# Altium schematic symbol library Agilent LED Display 7-Segment, 1-Digit.SchLib: 237 symbols (part 4 of 5)
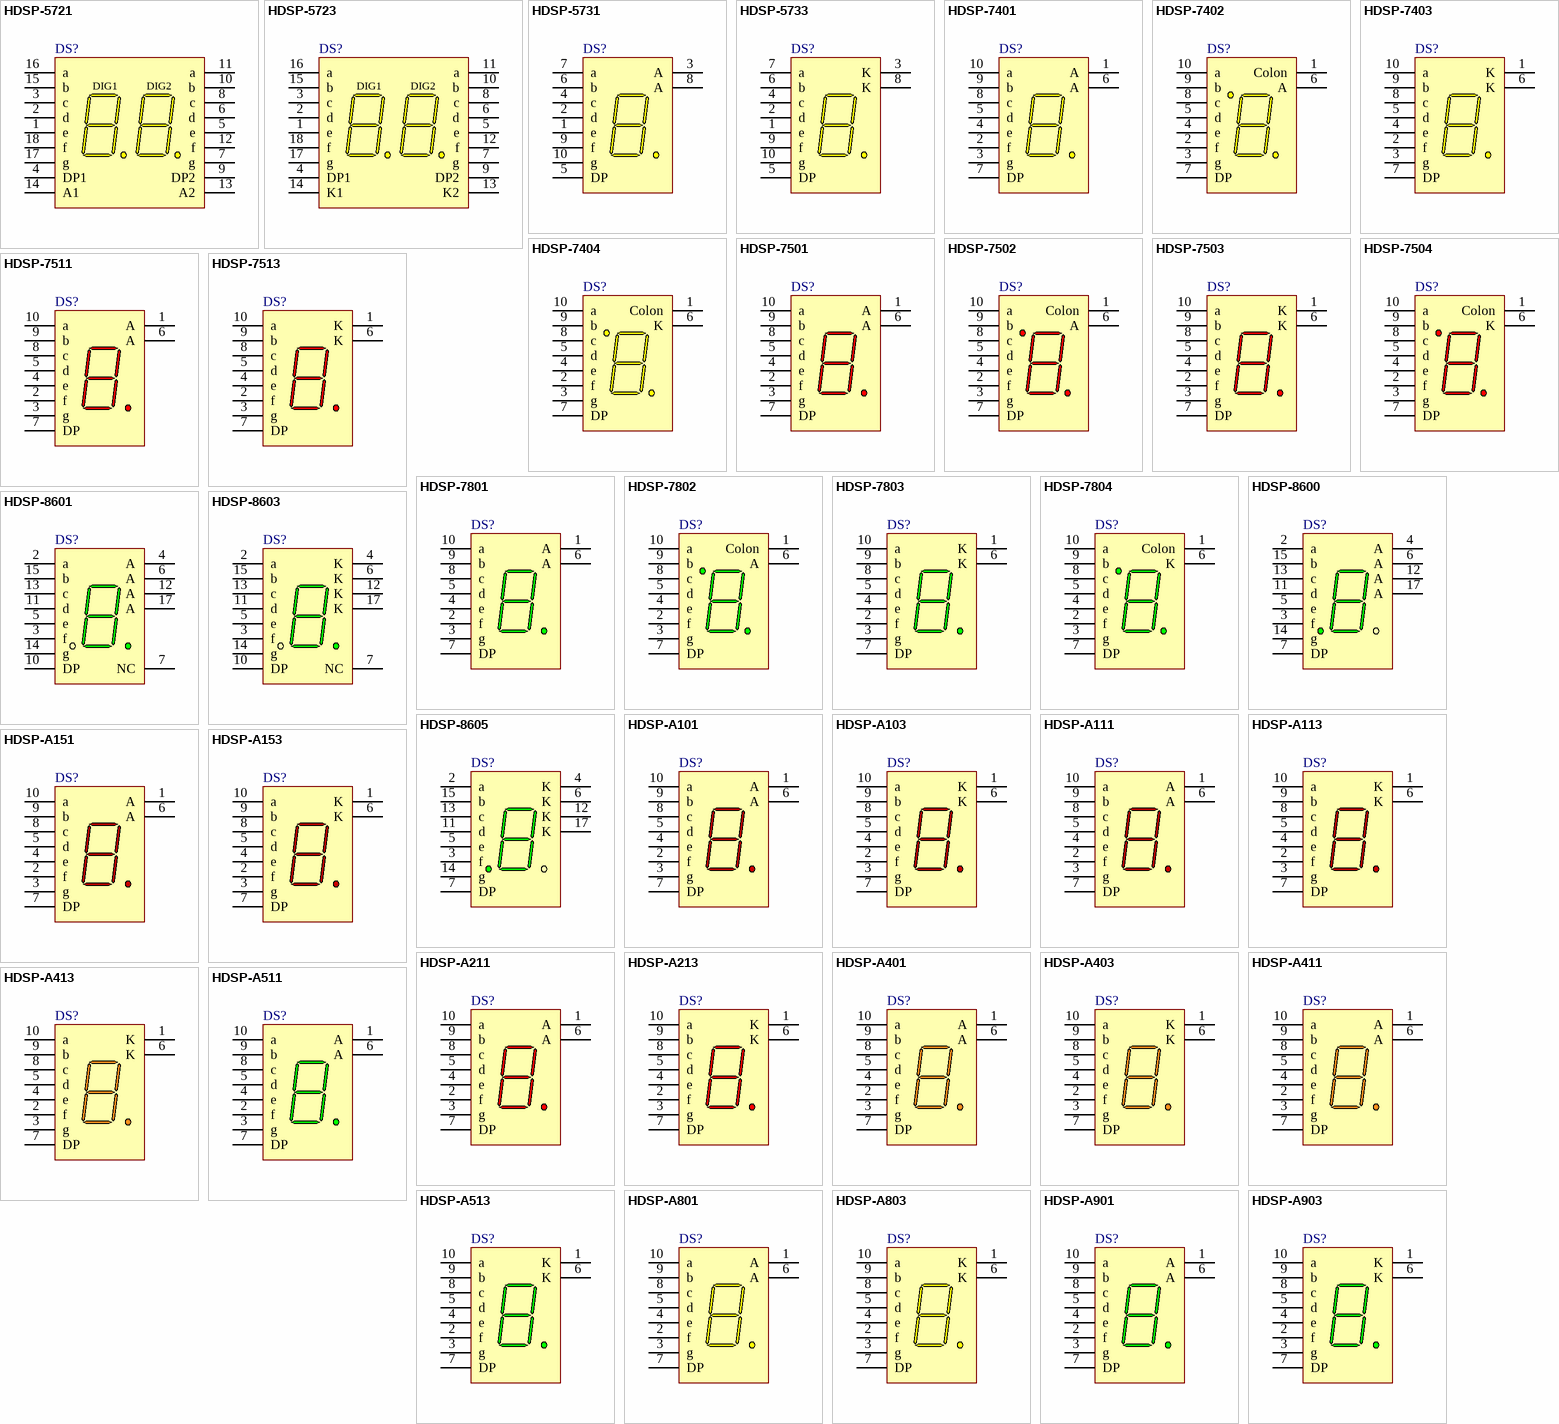
[diagram p8: symbols HDSP-5721 to HDSP-A903]

## HDSP-A513
designator DS?
7.62 mm Black Surface Green 7-Segment Display: CC, RH DP; LuminousIntensity: 860 ucd (Minimum).; Note: Pins 1 and 6 are redundant Cathodes.; Published: 26-May-2004; LatestRevisionDate: 11-Oct-2004; LatestRevisionNote: Display outline superimposed on PCB Footprint.; DatasheetDocument: 19-Feb-2002; PackageDocument: 19-Feb-2002; PackageReference: A; Publisher: Altium Limited; LED_Colour: Green; ComponentLink1Description: Manufacturer Link; ComponentLink1URL: http://www.agilent.com/; ComponentLink2Description: Datasheet; ComponentLink2URL: http://cp.literature.agilent.com/litweb/pdf/5989-2795EN.pdf
footprint A (LED, 7-Segment Display, 7.62 mm, RHD; 10 Leads; Row Space 5.08 mm; Pitch 2.54 mm)
simulation model HDSP_A513 (SUBCKT)
pins: 1 K "Cathode", 2 f "Anode", 3 g "Anode", 4 e "Anode", 5 d "Anode", 6 K "Cathode", 7 DP "Anode", 8 c "Anode", 9 b "Anode", 10 a "Anode"

## HDSP-A801
designator DS?
7.62 mm Low Current Yellow 7-Segment Display: CA, RH DP; LuminousIntensity: 250 ucd (Minimum).; Note: Pins 1 and 6 are redundant Anodes.; Published: 26-May-2004; LatestRevisionDate: 11-Oct-2004; LatestRevisionNote: Display outline superimposed on PCB Footprint.; DatasheetDocument: 11-Mar-2003; PackageDocument: 19-Feb-2002; PackageReference: A; Publisher: Altium Limited; LED_Colour: Yellow; ComponentLink1Description: Manufacturer Link; ComponentLink1URL: http://www.agilent.com/; ComponentLink2Description: Datasheet; ComponentLink2URL: http://cp.literature.agilent.com/litweb/pdf/5989-2824EN.pdf
footprint A (LED, 7-Segment Display, 7.62 mm, RHD; 10 Leads; Row Space 5.08 mm; Pitch 2.54 mm)
simulation model HDSP_A801 (SUBCKT)
pins: 1 A "Anode", 2 f "Cathode", 3 g "Cathode", 4 e "Cathode", 5 d "Cathode", 6 A "Anode", 7 DP "Cathode", 8 c "Cathode", 9 b "Cathode", 10 a "Cathode"

## HDSP-A803
designator DS?
7.62 mm Low Current Yellow 7-Segment Display: CC, RH DP; LuminousIntensity: 250 ucd (Minimum).; Note: Pins 1 and 6 are redundant Cathodes.; Published: 26-May-2004; LatestRevisionDate: 11-Oct-2004; LatestRevisionNote: Display outline superimposed on PCB Footprint.; DatasheetDocument: 11-Mar-2003; PackageDocument: 19-Feb-2002; PackageReference: A; Publisher: Altium Limited; LED_Colour: Yellow; ComponentLink1Description: Manufacturer Link; ComponentLink1URL: http://www.agilent.com/; ComponentLink2Description: Datasheet; ComponentLink2URL: http://cp.literature.agilent.com/litweb/pdf/5989-2824EN.pdf
footprint A (LED, 7-Segment Display, 7.62 mm, RHD; 10 Leads; Row Space 5.08 mm; Pitch 2.54 mm)
simulation model HDSP_A803 (SUBCKT)
pins: 1 K "Cathode", 2 f "Anode", 3 g "Anode", 4 e "Anode", 5 d "Anode", 6 K "Cathode", 7 DP "Anode", 8 c "Anode", 9 b "Anode", 10 a "Anode"

## HDSP-A901
designator DS?
7.62 mm Low Current Green 7-Segment Display: CA, RH DP; LuminousIntensity: 250 ucd (Minimum).; Note: Pins 1 and 6 are redundant Anodes.; Published: 26-May-2004; LatestRevisionDate: 11-Oct-2004; LatestRevisionNote: Display outline superimposed on PCB Footprint.; DatasheetDocument: 11-Mar-2003; PackageDocument: 19-Feb-2002; PackageReference: A; Publisher: Altium Limited; LED_Colour: Green; ComponentLink1Description: Manufacturer Link; ComponentLink1URL: http://www.agilent.com/; ComponentLink2Description: Datasheet; ComponentLink2URL: http://cp.literature.agilent.com/litweb/pdf/5989-2824EN.pdf
footprint A (LED, 7-Segment Display, 7.62 mm, RHD; 10 Leads; Row Space 5.08 mm; Pitch 2.54 mm)
simulation model HDSP_A901 (SUBCKT)
pins: 1 A "Anode", 2 f "Cathode", 3 g "Cathode", 4 e "Cathode", 5 d "Cathode", 6 A "Anode", 7 DP "Cathode", 8 c "Cathode", 9 b "Cathode", 10 a "Cathode"

## HDSP-A903
designator DS?
7.62 mm Low Current Green 7-Segment Display: CC, RH DP; LuminousIntensity: 250 ucd (Minimum).; Note: Pins 1 and 6 are redundant Cathodes.; Published: 26-May-2004; LatestRevisionDate: 11-Oct-2004; LatestRevisionNote: Display outline superimposed on PCB Footprint.; DatasheetDocument: 11-Mar-2003; PackageDocument: 19-Feb-2002; PackageReference: A; Publisher: Altium Limited; LED_Colour: Green; ComponentLink1Description: Manufacturer Link; ComponentLink1URL: http://www.agilent.com/; ComponentLink2Description: Datasheet; ComponentLink2URL: http://cp.literature.agilent.com/litweb/pdf/5989-2824EN.pdf
footprint A (LED, 7-Segment Display, 7.62 mm, RHD; 10 Leads; Row Space 5.08 mm; Pitch 2.54 mm)
simulation model HDSP_A903 (SUBCKT)
pins: 1 K "Cathode", 2 f "Anode", 3 g "Anode", 4 e "Anode", 5 d "Anode", 6 K "Cathode", 7 DP "Anode", 8 c "Anode", 9 b "Anode", 10 a "Anode"

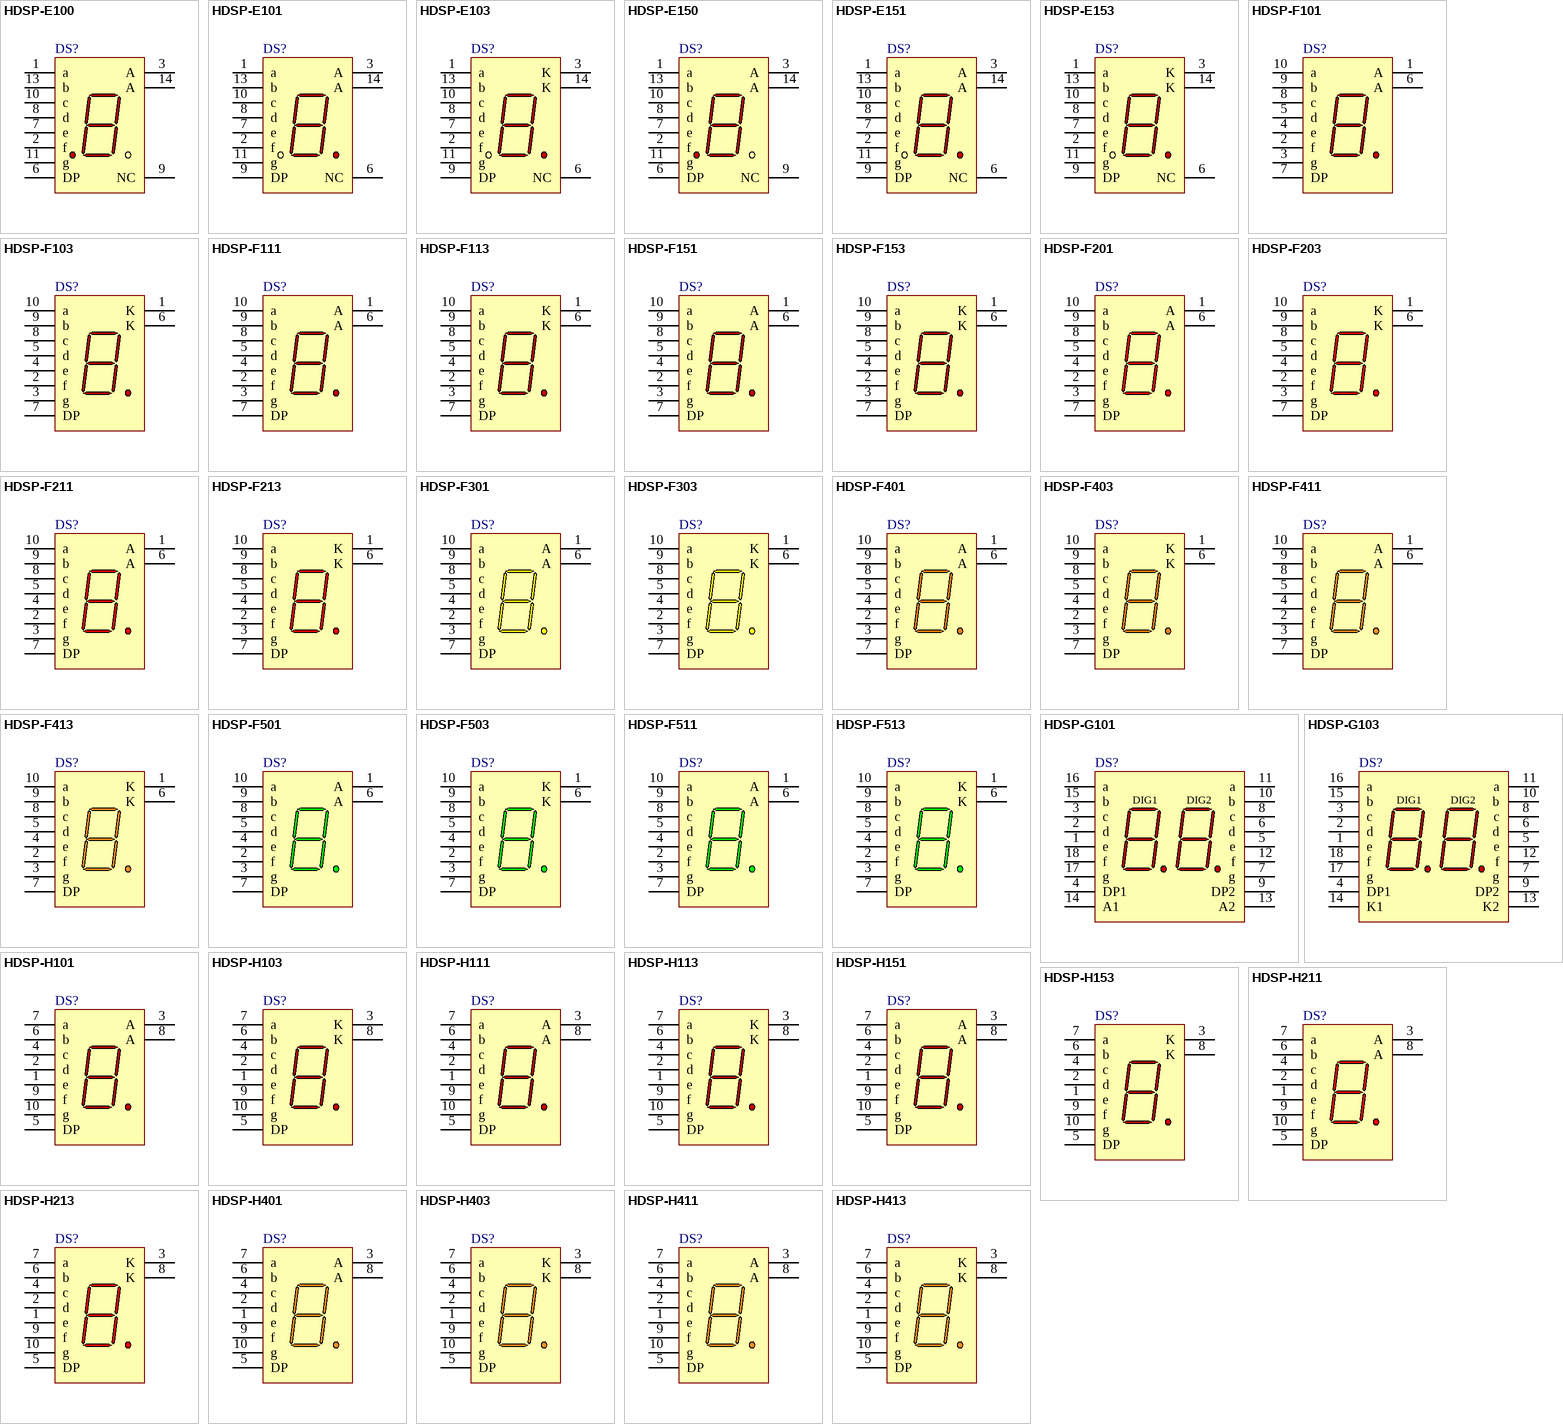
[diagram p4: symbols HDSP-E100 to HDSP-H413]

## HDSP-E100
designator DS?
10.92 mm Low Current AlGaAs 7-Segment Display: CA, LH DP; LuminousIntensity: 390 ucd (Minimum).; LED_Colour: AlGaAs Red; Note: Pins 3 and 14 are redundant Anodes.; Note: No pins are present in positions 4, 5 and 12.; Published: 26-May-2004; LatestRevisionDate: 11-Oct-2004; LatestRevisionNote: Display outline superimposed on PCB Footprint.; DatasheetDocument: 11-Mar-2003; PackageDocument: 11-Mar-2003; PackageReference: E-11(L); Publisher: Altium Limited; ComponentLink1Description: Manufacturer Link; ComponentLink1URL: http://www.agilent.com/; ComponentLink2Description: Datasheet; ComponentLink2URL: http://cp.literature.agilent.com/litweb/pdf/5989-2824EN.pdf
footprint E-11(L) (LED, 7-Segment Display, 10.92 mm, LHD; 14 Leads (3 Absent); Row Space 7.62 mm; Pitch 2.54 mm)
simulation model HDSP_E100 (SUBCKT)
pins: 1 a "Cathode", 2 f "Cathode", 3 A "Anode", 6 DP "Cathode", 7 e "Cathode", 8 d "Cathode", 9 NC "No Connect", 10 c "Cathode", 11 g "Cathode", 13 b "Cathode", 14 A "Anode"

## HDSP-E101
designator DS?
10.92 mm Low Current AlGaAs 7-Segment Display: CA, RH DP; LuminousIntensity: 390 ucd (Minimum).; LED_Colour: AlGaAs Red; Note: Pins 3 and 14 are redundant Anodes.; Note: No pins are present in positions 4, 5 and 12.; Published: 26-May-2004; LatestRevisionDate: 11-Oct-2004; LatestRevisionNote: Display outline superimposed on PCB Footprint.; DatasheetDocument: 11-Mar-2003; PackageDocument: 11-Mar-2003; PackageReference: E-11(R); Publisher: Altium Limited; ComponentLink1Description: Manufacturer Link; ComponentLink1URL: http://www.agilent.com/; ComponentLink2Description: Datasheet; ComponentLink2URL: http://cp.literature.agilent.com/litweb/pdf/5989-2824EN.pdf
footprint E-11(R) (LED, 7-Segment Display, 10.92 mm, RHD; 14 Leads (3 Absent); Row Space 7.62 mm; Pitch 2.54 mm)
simulation model HDSP_E101 (SUBCKT)
pins: 1 a "Cathode", 2 f "Cathode", 3 A "Anode", 6 NC "No Connect", 7 e "Cathode", 8 d "Cathode", 9 DP "Cathode", 10 c "Cathode", 11 g "Cathode", 13 b "Cathode", 14 A "Anode"

## HDSP-E103
designator DS?
10.92 mm Low Current AlGaAs 7-Segment Display: CC, RH DP; LuminousIntensity: 390 ucd (Minimum).; LED_Colour: AlGaAs Red; Note: Pins 3 and 14 are redundant Cathodes.; Note: No pins are present in positions 4, 5 and 12.; Published: 26-May-2004; LatestRevisionDate: 11-Oct-2004; LatestRevisionNote: Display outline superimposed on PCB Footprint.; DatasheetDocument: 11-Mar-2003; PackageDocument: 11-Mar-2003; PackageReference: E-11(R); Publisher: Altium Limited; ComponentLink1Description: Manufacturer Link; ComponentLink1URL: http://www.agilent.com/; ComponentLink2Description: Datasheet; ComponentLink2URL: http://cp.literature.agilent.com/litweb/pdf/5989-2824EN.pdf
footprint E-11(R) (LED, 7-Segment Display, 10.92 mm, RHD; 14 Leads (3 Absent); Row Space 7.62 mm; Pitch 2.54 mm)
simulation model HDSP_E103 (SUBCKT)
pins: 1 a "Anode", 2 f "Anode", 3 K "Cathode", 6 NC "No Connect", 7 e "Anode", 8 d "Anode", 9 DP "Anode", 10 c "Anode", 11 g "Anode", 13 b "Anode", 14 K "Cathode"

## HDSP-E150
designator DS?
10.92 mm AlGaAs 7-Segment Display: CA, LH DP; LuminousIntensity: 8500 ucd (Minimum).; LED_Colour: AlGaAs Red; Note: Pins 3 and 14 are redundant Anodes.; Note: No pins are present in positions 4, 5 and 12.; Published: 26-May-2004; LatestRevisionDate: 11-Oct-2004; LatestRevisionNote: Display outline superimposed on PCB Footprint.; DatasheetDocument: 27-Aug-2001; PackageDocument: 11-Mar-2003; PackageReference: E-11(L); Publisher: Altium Limited; ComponentLink1Description: Manufacturer Link; ComponentLink1URL: http://www.agilent.com/; ComponentLink2Description: Datasheet; ComponentLink2URL: http://cp.literature.agilent.com/litweb/pdf/5988-3325EN.pdf
footprint E-11(L) (LED, 7-Segment Display, 10.92 mm, LHD; 14 Leads (3 Absent); Row Space 7.62 mm; Pitch 2.54 mm)
simulation model HDSP_E150 (SUBCKT)
pins: 1 a "Cathode", 2 f "Cathode", 3 A "Anode", 6 DP "Cathode", 7 e "Cathode", 8 d "Cathode", 9 NC "No Connect", 10 c "Cathode", 11 g "Cathode", 13 b "Cathode", 14 A "Anode"

## HDSP-E151
designator DS?
10.92 mm AlGaAs 7-Segment Display: CA, RH DP; LuminousIntensity: 8500 ucd (Minimum).; LED_Colour: AlGaAs Red; Note: Pins 3 and 14 are redundant Anodes.; Note: No pins are present in positions 4, 5 and 12.; Published: 26-May-2004; LatestRevisionDate: 11-Oct-2004; LatestRevisionNote: Display outline superimposed on PCB Footprint.; DatasheetDocument: 27-Aug-2001; PackageDocument: 11-Mar-2003; PackageReference: E-11(R); Publisher: Altium Limited; ComponentLink1Description: Manufacturer Link; ComponentLink1URL: http://www.agilent.com/; ComponentLink2Description: Datasheet; ComponentLink2URL: http://cp.literature.agilent.com/litweb/pdf/5988-3325EN.pdf
footprint E-11(R) (LED, 7-Segment Display, 10.92 mm, RHD; 14 Leads (3 Absent); Row Space 7.62 mm; Pitch 2.54 mm)
simulation model HDSP_E151 (SUBCKT)
pins: 1 a "Cathode", 2 f "Cathode", 3 A "Anode", 6 NC "No Connect", 7 e "Cathode", 8 d "Cathode", 9 DP "Cathode", 10 c "Cathode", 11 g "Cathode", 13 b "Cathode", 14 A "Anode"

## HDSP-E153
designator DS?
10.92 mm AlGaAs 7-Segment Display: CC, RH DP; LuminousIntensity: 8500 ucd (Minimum).; LED_Colour: AlGaAs Red; Note: Pins 3 and 14 are redundant Cathodes.; Note: No pins are present in positions 4, 5 and 12.; Published: 26-May-2004; LatestRevisionDate: 11-Oct-2004; LatestRevisionNote: Display outline superimposed on PCB Footprint.; DatasheetDocument: 27-Aug-2001; PackageDocument: 11-Mar-2003; PackageReference: E-11(R); Publisher: Altium Limited; ComponentLink1Description: Manufacturer Link; ComponentLink1URL: http://www.agilent.com/; ComponentLink2Description: Datasheet; ComponentLink2URL: http://cp.literature.agilent.com/litweb/pdf/5988-3325EN.pdf
footprint E-11(R) (LED, 7-Segment Display, 10.92 mm, RHD; 14 Leads (3 Absent); Row Space 7.62 mm; Pitch 2.54 mm)
simulation model HDSP_E153 (SUBCKT)
pins: 1 a "Anode", 2 f "Anode", 3 K "Cathode", 6 NC "No Connect", 7 e "Anode", 8 d "Anode", 9 DP "Anode", 10 c "Anode", 11 g "Anode", 13 b "Anode", 14 K "Cathode"

## HDSP-F101
designator DS?
10.16 mm Low Current AlGaAs 7-Segment Display: CA, RH DP; LuminousIntensity: 330 ucd (Minimum).; LED_Colour: AlGaAs Red; Note: Pins 1 and 6 are redundant Anodes.; Published: 26-May-2004; LatestRevisionDate: 11-Oct-2004; LatestRevisionNote: Display outline superimposed on PCB Footprint.; DatasheetDocument: 11-Mar-2003; PackageDocument: 17-Jan-2002; PackageReference: F; Publisher: Altium Limited; ComponentLink1Description: Manufacturer Link; ComponentLink1URL: http://www.agilent.com/; ComponentLink2Description: Datasheet; ComponentLink2URL: http://cp.literature.agilent.com/litweb/pdf/5989-2824EN.pdf
footprint F (LED, 7-Segment Display, 10.16 mm, RHD; 10 Leads; Row Space 7.62 mm; Pitch 2.54 mm)
simulation model HDSP_A101 (SUBCKT)
pins: 1 A "Anode", 2 f "Cathode", 3 g "Cathode", 4 e "Cathode", 5 d "Cathode", 6 A "Anode", 7 DP "Cathode", 8 c "Cathode", 9 b "Cathode", 10 a "Cathode"

## HDSP-F103
designator DS?
10.16 mm Low Current AlGaAs 7-Segment Display: CC, RH DP; LuminousIntensity: 330 ucd (Minimum).; LED_Colour: AlGaAs Red; Note: Pins 1 and 6 are redundant Cathodes.; Published: 26-May-2004; LatestRevisionDate: 11-Oct-2004; LatestRevisionNote: Display outline superimposed on PCB Footprint.; DatasheetDocument: 11-Mar-2003; PackageDocument: 17-Jan-2002; PackageReference: F; Publisher: Altium Limited; ComponentLink1Description: Manufacturer Link; ComponentLink1URL: http://www.agilent.com/; ComponentLink2Description: Datasheet; ComponentLink2URL: http://cp.literature.agilent.com/litweb/pdf/5989-2824EN.pdf
footprint F (LED, 7-Segment Display, 10.16 mm, RHD; 10 Leads; Row Space 7.62 mm; Pitch 2.54 mm)
simulation model HDSP_A103 (SUBCKT)
pins: 1 K "Cathode", 2 f "Anode", 3 g "Anode", 4 e "Anode", 5 d "Anode", 6 K "Cathode", 7 DP "Anode", 8 c "Anode", 9 b "Anode", 10 a "Anode"

## HDSP-F111
designator DS?
10.16 mm Black Surface AlGaAs Red 7-Segment Display: CA, RH DP; LuminousIntensity: 330 ucd (Minimum).; Note: Pins 1 and 6 are redundant Anodes.; Published: 26-May-2004; LatestRevisionDate: 11-Oct-2004; LatestRevisionNote: Display outline superimposed on PCB Footprint.; DatasheetDocument: 19-Feb-2002; PackageDocument: 17-Jan-2002; PackageReference: F; Publisher: Altium Limited; LED_Colour: AlGaAs Red; ComponentLink1Description: Manufacturer Link; ComponentLink1URL: http://www.agilent.com/; ComponentLink2Description: Datasheet; ComponentLink2URL: http://cp.literature.agilent.com/litweb/pdf/5989-2795EN.pdf
footprint F (LED, 7-Segment Display, 10.16 mm, RHD; 10 Leads; Row Space 7.62 mm; Pitch 2.54 mm)
simulation model HDSP_A111 (SUBCKT)
pins: 1 A "Anode", 2 f "Cathode", 3 g "Cathode", 4 e "Cathode", 5 d "Cathode", 6 A "Anode", 7 DP "Cathode", 8 c "Cathode", 9 b "Cathode", 10 a "Cathode"

## HDSP-F113
designator DS?
10.16 mm Black Surface AlGaAs Red 7-Segment Display: CC, RH DP; LuminousIntensity: 330 ucd (Minimum).; Note: Pins 1 and 6 are redundant Cathodes.; Published: 26-May-2004; LatestRevisionDate: 11-Oct-2004; LatestRevisionNote: Display outline superimposed on PCB Footprint.; DatasheetDocument: 19-Feb-2002; PackageDocument: 17-Jan-2002; PackageReference: F; Publisher: Altium Limited; LED_Colour: AlGaAs Red; ComponentLink1Description: Manufacturer Link; ComponentLink1URL: http://www.agilent.com/; ComponentLink2Description: Datasheet; ComponentLink2URL: http://cp.literature.agilent.com/litweb/pdf/5989-2795EN.pdf
footprint F (LED, 7-Segment Display, 10.16 mm, RHD; 10 Leads; Row Space 7.62 mm; Pitch 2.54 mm)
simulation model HDSP_A113 (SUBCKT)
pins: 1 K "Cathode", 2 f "Anode", 3 g "Anode", 4 e "Anode", 5 d "Anode", 6 K "Cathode", 7 DP "Anode", 8 c "Anode", 9 b "Anode", 10 a "Anode"

## HDSP-F151
designator DS?
10.16 mm Gray Package AlGaAs Red 7-Segment Display: CA, RH DP; LuminousIntensity: 7500 ucd (Minimum).; Note: Pins 1 and 6 are redundant Anodes.; Published: 26-May-2004; LatestRevisionDate: 11-Oct-2004; LatestRevisionNote: Display outline superimposed on PCB Footprint.; DatasheetDocument: 26-Jul-2001; PackageDocument: 17-Jan-2002; PackageReference: F; Publisher: Altium Limited; LED_Colour: AlGaAs Red; ComponentLink1Description: Manufacturer Link; ComponentLink1URL: http://www.agilent.com/; ComponentLink2Description: Datasheet; ComponentLink2URL: http://cp.literature.agilent.com/litweb/pdf/5989-2346EN.pdf
footprint F (LED, 7-Segment Display, 10.16 mm, RHD; 10 Leads; Row Space 7.62 mm; Pitch 2.54 mm)
simulation model HDSP_F151 (SUBCKT)
pins: 1 A "Anode", 2 f "Cathode", 3 g "Cathode", 4 e "Cathode", 5 d "Cathode", 6 A "Anode", 7 DP "Cathode", 8 c "Cathode", 9 b "Cathode", 10 a "Cathode"

## HDSP-F153
designator DS?
10.16 mm Gray Package AlGaAs Red 7-Segment Display: CC, RH DP; LuminousIntensity: 7500 ucd (Minimum).; Note: Pins 1 and 6 are redundant Cathodes.; Published: 26-May-2004; LatestRevisionDate: 11-Oct-2004; LatestRevisionNote: Display outline superimposed on PCB Footprint.; DatasheetDocument: 26-Jul-2001; PackageDocument: 17-Jan-2002; PackageReference: F; Publisher: Altium Limited; LED_Colour: AlGaAs Red; ComponentLink1Description: Manufacturer Link; ComponentLink1URL: http://www.agilent.com/; ComponentLink2Description: Datasheet; ComponentLink2URL: http://cp.literature.agilent.com/litweb/pdf/5989-2346EN.pdf
footprint F (LED, 7-Segment Display, 10.16 mm, RHD; 10 Leads; Row Space 7.62 mm; Pitch 2.54 mm)
simulation model HDSP_F153 (SUBCKT)
pins: 1 K "Cathode", 2 f "Anode", 3 g "Anode", 4 e "Anode", 5 d "Anode", 6 K "Cathode", 7 DP "Anode", 8 c "Anode", 9 b "Anode", 10 a "Anode"

## HDSP-F201
designator DS?
10.16 mm Gray Package HER 7-Segment Display: CA, RH DP; LuminousIntensity: 420 ucd (Minimum).; LED_Colour: High Efficiency Red (HER); Note: Pins 1 and 6 are redundant Anodes.; Published: 26-May-2004; LatestRevisionDate: 11-Oct-2004; LatestRevisionNote: Display outline superimposed on PCB Footprint.; DatasheetDocument: 26-Jul-2001; PackageDocument: 17-Jan-2002; PackageReference: F; Publisher: Altium Limited; ComponentLink1Description: Manufacturer Link; ComponentLink1URL: http://www.agilent.com/; ComponentLink2Description: Datasheet; ComponentLink2URL: http://cp.literature.agilent.com/litweb/pdf/5989-2346EN.pdf
footprint F (LED, 7-Segment Display, 10.16 mm, RHD; 10 Leads; Row Space 7.62 mm; Pitch 2.54 mm)
simulation model HDSP_F201 (SUBCKT)
pins: 1 A "Anode", 2 f "Cathode", 3 g "Cathode", 4 e "Cathode", 5 d "Cathode", 6 A "Anode", 7 DP "Cathode", 8 c "Cathode", 9 b "Cathode", 10 a "Cathode"

## HDSP-F203
designator DS?
10.16 mm Gray Package HER 7-Segment Display: CC, RH DP; LuminousIntensity: 420 ucd (Minimum).; LED_Colour: High Efficiency Red (HER); Note: Pins 1 and 6 are redundant Cathodes.; Published: 26-May-2004; LatestRevisionDate: 11-Oct-2004; LatestRevisionNote: Display outline superimposed on PCB Footprint.; DatasheetDocument: 26-Jul-2001; PackageDocument: 17-Jan-2002; PackageReference: F; Publisher: Altium Limited; ComponentLink1Description: Manufacturer Link; ComponentLink1URL: http://www.agilent.com/; ComponentLink2Description: Datasheet; ComponentLink2URL: http://cp.literature.agilent.com/litweb/pdf/5989-2346EN.pdf
footprint F (LED, 7-Segment Display, 10.16 mm, RHD; 10 Leads; Row Space 7.62 mm; Pitch 2.54 mm)
simulation model HDSP_F203 (SUBCKT)
pins: 1 K "Cathode", 2 f "Anode", 3 g "Anode", 4 e "Anode", 5 d "Anode", 6 K "Cathode", 7 DP "Anode", 8 c "Anode", 9 b "Anode", 10 a "Anode"

## HDSP-F211
designator DS?
10.16 mm Black Surface HER 7-Segment Display: CA, RH DP; LuminousIntensity: 420 ucd (Minimum).; LED_Colour: High Efficiency Red (HER); Note: Pins 1 and 6 are redundant Anodes.; Published: 26-May-2004; LatestRevisionDate: 11-Oct-2004; LatestRevisionNote: Display outline superimposed on PCB Footprint.; DatasheetDocument: 19-Feb-2002; PackageDocument: 17-Jan-2002; PackageReference: F; Publisher: Altium Limited; ComponentLink1Description: Manufacturer Link; ComponentLink1URL: http://www.agilent.com/; ComponentLink2Description: Datasheet; ComponentLink2URL: http://cp.literature.agilent.com/litweb/pdf/5989-2795EN.pdf
footprint F (LED, 7-Segment Display, 10.16 mm, RHD; 10 Leads; Row Space 7.62 mm; Pitch 2.54 mm)
simulation model HDSP_A211 (SUBCKT)
pins: 1 A "Anode", 2 f "Cathode", 3 g "Cathode", 4 e "Cathode", 5 d "Cathode", 6 A "Anode", 7 DP "Cathode", 8 c "Cathode", 9 b "Cathode", 10 a "Cathode"

## HDSP-F213
designator DS?
10.16 mm Black Surface HER 7-Segment Display: CC, RH DP; LuminousIntensity: 420 ucd (Minimum).; LED_Colour: High Efficiency Red (HER); Note: Pins 1 and 6 are redundant Cathodes.; Published: 26-May-2004; LatestRevisionDate: 11-Oct-2004; LatestRevisionNote: Display outline superimposed on PCB Footprint.; DatasheetDocument: 19-Feb-2002; PackageDocument: 17-Jan-2002; PackageReference: F; Publisher: Altium Limited; ComponentLink1Description: Manufacturer Link; ComponentLink1URL: http://www.agilent.com/; ComponentLink2Description: Datasheet; ComponentLink2URL: http://cp.literature.agilent.com/litweb/pdf/5989-2795EN.pdf
footprint F (LED, 7-Segment Display, 10.16 mm, RHD; 10 Leads; Row Space 7.62 mm; Pitch 2.54 mm)
simulation model HDSP_A213 (SUBCKT)
pins: 1 K "Cathode", 2 f "Anode", 3 g "Anode", 4 e "Anode", 5 d "Anode", 6 K "Cathode", 7 DP "Anode", 8 c "Anode", 9 b "Anode", 10 a "Anode"

## HDSP-F301
designator DS?
10.16 mm Gray Package Yellow 7-Segment Display: CA, RH DP; LuminousIntensity: 290 ucd (Minimum).; Note: Pins 1 and 6 are redundant Anodes.; Published: 26-May-2004; LatestRevisionDate: 11-Oct-2004; LatestRevisionNote: Display outline superimposed on PCB Footprint.; DatasheetDocument: 26-Jul-2001; PackageDocument: 17-Jan-2002; PackageReference: F; Publisher: Altium Limited; LED_Colour: Yellow; ComponentLink1Description: Manufacturer Link; ComponentLink1URL: http://www.agilent.com/; ComponentLink2Description: Datasheet; ComponentLink2URL: http://cp.literature.agilent.com/litweb/pdf/5989-2346EN.pdf
footprint F (LED, 7-Segment Display, 10.16 mm, RHD; 10 Leads; Row Space 7.62 mm; Pitch 2.54 mm)
simulation model HDSP_F301 (SUBCKT)
pins: 1 A "Anode", 2 f "Cathode", 3 g "Cathode", 4 e "Cathode", 5 d "Cathode", 6 A "Anode", 7 DP "Cathode", 8 c "Cathode", 9 b "Cathode", 10 a "Cathode"

## HDSP-F303
designator DS?
10.16 mm Gray Package Yellow 7-Segment Display: CC, RH DP; LuminousIntensity: 290 ucd (Minimum).; Note: Pins 1 and 6 are redundant Cathodes.; Published: 26-May-2004; LatestRevisionDate: 11-Oct-2004; LatestRevisionNote: Display outline superimposed on PCB Footprint.; DatasheetDocument: 26-Jul-2001; PackageDocument: 17-Jan-2002; PackageReference: F; Publisher: Altium Limited; LED_Colour: Yellow; ComponentLink1Description: Manufacturer Link; ComponentLink1URL: http://www.agilent.com/; ComponentLink2Description: Datasheet; ComponentLink2URL: http://cp.literature.agilent.com/litweb/pdf/5989-2346EN.pdf
footprint F (LED, 7-Segment Display, 10.16 mm, RHD; 10 Leads; Row Space 7.62 mm; Pitch 2.54 mm)
simulation model HDSP_F303 (SUBCKT)
pins: 1 K "Cathode", 2 f "Anode", 3 g "Anode", 4 e "Anode", 5 d "Anode", 6 K "Cathode", 7 DP "Anode", 8 c "Anode", 9 b "Anode", 10 a "Anode"

## HDSP-F401
designator DS?
10.16 mm Gray Package Orange 7-Segment Display: CA, RH DP; LuminousIntensity: 420 ucd (Minimum).; Note: Pins 1 and 6 are redundant Anodes.; Published: 26-May-2004; LatestRevisionDate: 11-Oct-2004; LatestRevisionNote: Display outline superimposed on PCB Footprint.; DatasheetDocument: 26-Jul-2001; PackageDocument: 17-Jan-2002; PackageReference: F; Publisher: Altium Limited; LED_Colour: Orange; ComponentLink1Description: Manufacturer Link; ComponentLink1URL: http://www.agilent.com/; ComponentLink2Description: Datasheet; ComponentLink2URL: http://cp.literature.agilent.com/litweb/pdf/5989-2346EN.pdf
footprint F (LED, 7-Segment Display, 10.16 mm, RHD; 10 Leads; Row Space 7.62 mm; Pitch 2.54 mm)
simulation model HDSP_F401 (SUBCKT)
pins: 1 A "Anode", 2 f "Cathode", 3 g "Cathode", 4 e "Cathode", 5 d "Cathode", 6 A "Anode", 7 DP "Cathode", 8 c "Cathode", 9 b "Cathode", 10 a "Cathode"

## HDSP-F403
designator DS?
10.16 mm Gray Package Orange 7-Segment Display: CC, RH DP; LuminousIntensity: 420 ucd (Minimum).; Note: Pins 1 and 6 are redundant Cathodes.; Published: 26-May-2004; LatestRevisionDate: 11-Oct-2004; LatestRevisionNote: Display outline superimposed on PCB Footprint.; DatasheetDocument: 26-Jul-2001; PackageDocument: 17-Jan-2002; PackageReference: F; Publisher: Altium Limited; LED_Colour: Orange; ComponentLink1Description: Manufacturer Link; ComponentLink1URL: http://www.agilent.com/; ComponentLink2Description: Datasheet; ComponentLink2URL: http://cp.literature.agilent.com/litweb/pdf/5989-2346EN.pdf
footprint F (LED, 7-Segment Display, 10.16 mm, RHD; 10 Leads; Row Space 7.62 mm; Pitch 2.54 mm)
simulation model HDSP_F403 (SUBCKT)
pins: 1 K "Cathode", 2 f "Anode", 3 g "Anode", 4 e "Anode", 5 d "Anode", 6 K "Cathode", 7 DP "Anode", 8 c "Anode", 9 b "Anode", 10 a "Anode"

## HDSP-F411
designator DS?
10.16 mm Black Surface Orange 7-Segment Display: CA, RH DP; LuminousIntensity: 420 ucd (Minimum).; Note: Pins 1 and 6 are redundant Anodes.; Published: 26-May-2004; LatestRevisionDate: 11-Oct-2004; LatestRevisionNote: Display outline superimposed on PCB Footprint.; DatasheetDocument: 19-Feb-2002; PackageDocument: 17-Jan-2002; PackageReference: F; Publisher: Altium Limited; LED_Colour: Orange; ComponentLink1Description: Manufacturer Link; ComponentLink1URL: http://www.agilent.com/; ComponentLink2Description: Datasheet; ComponentLink2URL: http://cp.literature.agilent.com/litweb/pdf/5989-2795EN.pdf
footprint F (LED, 7-Segment Display, 10.16 mm, RHD; 10 Leads; Row Space 7.62 mm; Pitch 2.54 mm)
simulation model HDSP_A211 (SUBCKT)
pins: 1 A "Anode", 2 f "Cathode", 3 g "Cathode", 4 e "Cathode", 5 d "Cathode", 6 A "Anode", 7 DP "Cathode", 8 c "Cathode", 9 b "Cathode", 10 a "Cathode"

## HDSP-F413
designator DS?
10.16 mm Black Surface Orange 7-Segment Display: CC, RH DP; LuminousIntensity: 420 ucd (Minimum).; Note: Pins 1 and 6 are redundant Cathodes.; Published: 26-May-2004; LatestRevisionDate: 11-Oct-2004; LatestRevisionNote: Display outline superimposed on PCB Footprint.; DatasheetDocument: 19-Feb-2002; PackageDocument: 17-Jan-2002; PackageReference: F; Publisher: Altium Limited; LED_Colour: Orange; ComponentLink1Description: Manufacturer Link; ComponentLink1URL: http://www.agilent.com/; ComponentLink2Description: Datasheet; ComponentLink2URL: http://cp.literature.agilent.com/litweb/pdf/5989-2795EN.pdf
footprint F (LED, 7-Segment Display, 10.16 mm, RHD; 10 Leads; Row Space 7.62 mm; Pitch 2.54 mm)
simulation model HDSP_A213 (SUBCKT)
pins: 1 K "Cathode", 2 f "Anode", 3 g "Anode", 4 e "Anode", 5 d "Anode", 6 K "Cathode", 7 DP "Anode", 8 c "Anode", 9 b "Anode", 10 a "Anode"

## HDSP-F501
designator DS?
10.16 mm Gray Package Green 7-Segment Display: CA, RH DP; LuminousIntensity: 1030 ucd (Minimum).; Note: Pins 1 and 6 are redundant Anodes.; Published: 26-May-2004; LatestRevisionDate: 11-Oct-2004; LatestRevisionNote: Display outline superimposed on PCB Footprint.; DatasheetDocument: 26-Jul-2001; PackageDocument: 17-Jan-2002; PackageReference: F; Publisher: Altium Limited; LED_Colour: Green; ComponentLink1Description: Manufacturer Link; ComponentLink1URL: http://www.agilent.com/; ComponentLink2Description: Datasheet; ComponentLink2URL: http://cp.literature.agilent.com/litweb/pdf/5989-2346EN.pdf
footprint F (LED, 7-Segment Display, 10.16 mm, RHD; 10 Leads; Row Space 7.62 mm; Pitch 2.54 mm)
simulation model HDSP_F501 (SUBCKT)
pins: 1 A "Anode", 2 f "Cathode", 3 g "Cathode", 4 e "Cathode", 5 d "Cathode", 6 A "Anode", 7 DP "Cathode", 8 c "Cathode", 9 b "Cathode", 10 a "Cathode"

## HDSP-F503
designator DS?
10.16 mm Gray Package Green 7-Segment Display: CC, RH DP; LuminousIntensity: 1030 ucd (Minimum).; Note: Pins 1 and 6 are redundant Cathodes.; Published: 26-May-2004; LatestRevisionDate: 11-Oct-2004; LatestRevisionNote: Display outline superimposed on PCB Footprint.; DatasheetDocument: 26-Jul-2001; PackageDocument: 17-Jan-2002; PackageReference: F; Publisher: Altium Limited; LED_Colour: Green; ComponentLink1Description: Manufacturer Link; ComponentLink1URL: http://www.agilent.com/; ComponentLink2Description: Datasheet; ComponentLink2URL: http://cp.literature.agilent.com/litweb/pdf/5989-2346EN.pdf
footprint F (LED, 7-Segment Display, 10.16 mm, RHD; 10 Leads; Row Space 7.62 mm; Pitch 2.54 mm)
simulation model HDSP_F503 (SUBCKT)
pins: 1 K "Cathode", 2 f "Anode", 3 g "Anode", 4 e "Anode", 5 d "Anode", 6 K "Cathode", 7 DP "Anode", 8 c "Anode", 9 b "Anode", 10 a "Anode"

## HDSP-F511
designator DS?
10.16 mm Black Surface Green 7-Segment Display: CA, RH DP; LuminousIntensity: 1030 ucd (Minimum).; Note: Pins 1 and 6 are redundant Anodes.; Published: 26-May-2004; LatestRevisionDate: 11-Oct-2004; LatestRevisionNote: Display outline superimposed on PCB Footprint.; DatasheetDocument: 19-Feb-2002; PackageDocument: 17-Jan-2002; PackageReference: F; Publisher: Altium Limited; LED_Colour: Green; ComponentLink1Description: Manufacturer Link; ComponentLink1URL: http://www.agilent.com/; ComponentLink2Description: Datasheet; ComponentLink2URL: http://cp.literature.agilent.com/litweb/pdf/5989-2795EN.pdf
footprint F (LED, 7-Segment Display, 10.16 mm, RHD; 10 Leads; Row Space 7.62 mm; Pitch 2.54 mm)
simulation model HDSP_A511 (SUBCKT)
pins: 1 A "Anode", 2 f "Cathode", 3 g "Cathode", 4 e "Cathode", 5 d "Cathode", 6 A "Anode", 7 DP "Cathode", 8 c "Cathode", 9 b "Cathode", 10 a "Cathode"

## HDSP-F513
designator DS?
10.16 mm Black Surface Green 7-Segment Display: CC, RH DP; LuminousIntensity: 1030 ucd (Minimum).; Note: Pins 1 and 6 are redundant Cathodes.; Published: 26-May-2004; LatestRevisionDate: 11-Oct-2004; LatestRevisionNote: Display outline superimposed on PCB Footprint.; DatasheetDocument: 19-Feb-2002; PackageDocument: 17-Jan-2002; PackageReference: F; Publisher: Altium Limited; LED_Colour: Green; ComponentLink1Description: Manufacturer Link; ComponentLink1URL: http://www.agilent.com/; ComponentLink2Description: Datasheet; ComponentLink2URL: http://cp.literature.agilent.com/litweb/pdf/5989-2795EN.pdf
footprint F (LED, 7-Segment Display, 10.16 mm, RHD; 10 Leads; Row Space 7.62 mm; Pitch 2.54 mm)
simulation model HDSP_A513 (SUBCKT)
pins: 1 K "Cathode", 2 f "Anode", 3 g "Anode", 4 e "Anode", 5 d "Anode", 6 K "Cathode", 7 DP "Anode", 8 c "Anode", 9 b "Anode", 10 a "Anode"

## HDSP-G101
designator DS?
10.16 mm Low Current AlGaAs 7-Segment Display: 2-Digit, CA, RH DP; LuminousIntensity: 330 ucd (Minimum).; LED_Colour: AlGaAs Red; Published: 26-May-2004; LatestRevisionDate: 11-Oct-2004; LatestRevisionNote: Display outline superimposed on PCB Footprint.; DatasheetDocument: 11-Mar-2003; PackageDocument: 07-Mar-2002; PackageReference: G-18; Publisher: Altium Limited; ComponentLink1Description: Manufacturer Link; ComponentLink1URL: http://www.agilent.com/; ComponentLink2Description: Datasheet; ComponentLink2URL: http://cp.literature.agilent.com/litweb/pdf/5989-2824EN.pdf
footprint G-18 (LED, 7-Segment Display, 10.16 mm, Dual Digit; 18 Leads; Row Space 15.24 mm; Pitch 2.54 mm)
simulation model HDSP_G101 (SUBCKT)
pins: 1 e "Digit 1 e Cathode", 2 d "Digit 1 d Cathode", 3 c "Digit 1 c Cathode", 4 DP1 "Digit 1 DP Cathode", 5 e "Digit 2 e Cathode", 6 d "Digit 2 d Cathode", 7 g "Digit 2 g Cathode", 8 c "Digit 2 c Cathode", 9 DP2 "Digit 2 DP Cathode", 10 b "Digit 2 b Cathode", 11 a "Digit 2 a Cathode", 12 f "Digit 2 f Cathode", 13 A2 "Digit 2 Common Anode", 14 A1 "Digit 1 Common Anode", 15 b "Digit 1 b Cathode", 16 a "Digit 1 a Cathode", 17 g "Digit 1 g Cathode", 18 f "Digit 1 f Cathode"
text: DIG1; DIG2

## HDSP-G103
designator DS?
10.16 mm Low Current AlGaAs 7-Segment Display: 2-Digit, CC, RH DP; LuminousIntensity: 330 ucd (Minimum).; LED_Colour: AlGaAs Red; Published: 26-May-2004; LatestRevisionDate: 11-Oct-2004; LatestRevisionNote: Display outline superimposed on PCB Footprint.; DatasheetDocument: 11-Mar-2003; PackageDocument: 07-Mar-2002; PackageReference: G-18; Publisher: Altium Limited; ComponentLink1Description: Manufacturer Link; ComponentLink1URL: http://www.agilent.com/; ComponentLink2Description: Datasheet; ComponentLink2URL: http://cp.literature.agilent.com/litweb/pdf/5989-2824EN.pdf
footprint G-18 (LED, 7-Segment Display, 10.16 mm, Dual Digit; 18 Leads; Row Space 15.24 mm; Pitch 2.54 mm)
simulation model HDSP_G103 (SUBCKT)
pins: 1 e "Digit 1 e Anode", 2 d "Digit 1 d Anode", 3 c "Digit 1 c Anode", 4 DP1 "Digit 1 DP Anode", 5 e "Digit 2 e Anode", 6 d "Digit 2 d Anode", 7 g "Digit 2 g Anode", 8 c "Digit 2 c Anode", 9 DP2 "Digit 2 DP Anode", 10 b "Digit 2 b Anode", 11 a "Digit 2 a Anode", 12 f "Digit 2 f Anode", 13 K2 "Digit 2 Common Cathode", 14 K1 "Digit 1 Common Cathode", 15 b "Digit 1 b Anode", 16 a "Digit 1 a Anode", 17 g "Digit 1 g Anode", 18 f "Digit 1 f Anode"
text: DIG1; DIG2

## HDSP-H101
designator DS?
14.22 mm Low Current AlGaAs 7-Segment Display: CA, RH DP; LuminousIntensity: 400 ucd (Minimum).; LED_Colour: AlGaAs Red; Note: Pins 3 and 8 are redundant Anodes.; Published: 26-May-2004; LatestRevisionDate: 11-Oct-2004; LatestRevisionNote: Display outline superimposed on PCB Footprint.; DatasheetDocument: 11-Mar-2003; PackageDocument: 24-Sep-2002; PackageReference: H-10; Publisher: Altium Limited; ComponentLink1Description: Manufacturer Link; ComponentLink1URL: http://www.agilent.com/; ComponentLink2Description: Datasheet; ComponentLink2URL: http://cp.literature.agilent.com/litweb/pdf/5989-2824EN.pdf
footprint H-10 (LED, 7-Segment Display, 14.22 mm, RHD; 10 Leads; Row Space 15.24 mm; Pitch 2.54 mm)
simulation model HDSP_H101 (SUBCKT)
pins: 1 e "Cathode", 2 d "Cathode", 3 A "Anode", 4 c "Cathode", 5 DP "Cathode", 6 b "Cathode", 7 a "Cathode", 8 A "Anode", 9 f "Cathode", 10 g "Cathode"

## HDSP-H103
designator DS?
14.22 mm Low Current AlGaAs 7-Segment Display: CC, RH DP; LuminousIntensity: 400 ucd (Minimum).; LED_Colour: AlGaAs Red; Note: Pins 3 and 8 are redundant Cathodes.; Published: 26-May-2004; LatestRevisionDate: 11-Oct-2004; LatestRevisionNote: Display outline superimposed on PCB Footprint.; DatasheetDocument: 11-Mar-2003; PackageDocument: 24-Sep-2002; PackageReference: H-10; Publisher: Altium Limited; ComponentLink1Description: Manufacturer Link; ComponentLink1URL: http://www.agilent.com/; ComponentLink2Description: Datasheet; ComponentLink2URL: http://cp.literature.agilent.com/litweb/pdf/5989-2824EN.pdf
footprint H-10 (LED, 7-Segment Display, 14.22 mm, RHD; 10 Leads; Row Space 15.24 mm; Pitch 2.54 mm)
simulation model HDSP_H103 (SUBCKT)
pins: 1 e "Anode", 2 d "Anode", 3 K "Cathode", 4 c "Anode", 5 DP "Anode", 6 b "Anode", 7 a "Anode", 8 K "Cathode", 9 f "Anode", 10 g "Anode"

## HDSP-H111
designator DS?
14.22 mm Black Surface AlGaAs Red 7-Segment Display: CA, RH DP; LuminousIntensity: 400 ucd (Minimum).; Note: Pins 3 and 8 are redundant Anodes.; Published: 26-May-2004; LatestRevisionDate: 11-Oct-2004; LatestRevisionNote: Display outline superimposed on PCB Footprint.; DatasheetDocument: 19-Feb-2002; PackageDocument: 24-Sep-2002; PackageReference: H-10; Publisher: Altium Limited; LED_Colour: AlGaAs Red; ComponentLink1Description: Manufacturer Link; ComponentLink1URL: http://www.agilent.com/; ComponentLink2Description: Datasheet; ComponentLink2URL: http://cp.literature.agilent.com/litweb/pdf/5989-2795EN.pdf
footprint H-10 (LED, 7-Segment Display, 14.22 mm, RHD; 10 Leads; Row Space 15.24 mm; Pitch 2.54 mm)
simulation model HDSP_H111 (SUBCKT)
pins: 1 e "Cathode", 2 d "Cathode", 3 A "Anode", 4 c "Cathode", 5 DP "Cathode", 6 b "Cathode", 7 a "Cathode", 8 A "Anode", 9 f "Cathode", 10 g "Cathode"

## HDSP-H113
designator DS?
14.22 mm Black Surface AlGaAs Red 7-Segment Display: CC, RH DP; LuminousIntensity: 400 ucd (Minimum).; Note: Pins 3 and 8 are redundant Cathodes.; Published: 26-May-2004; LatestRevisionDate: 11-Oct-2004; LatestRevisionNote: Display outline superimposed on PCB Footprint.; DatasheetDocument: 19-Feb-2002; PackageDocument: 24-Sep-2002; PackageReference: H-10; Publisher: Altium Limited; LED_Colour: AlGaAs Red; ComponentLink1Description: Manufacturer Link; ComponentLink1URL: http://www.agilent.com/; ComponentLink2Description: Datasheet; ComponentLink2URL: http://cp.literature.agilent.com/litweb/pdf/5989-2795EN.pdf
footprint H-10 (LED, 7-Segment Display, 14.22 mm, RHD; 10 Leads; Row Space 15.24 mm; Pitch 2.54 mm)
simulation model HDSP_H113 (SUBCKT)
pins: 1 e "Anode", 2 d "Anode", 3 K "Cathode", 4 c "Anode", 5 DP "Anode", 6 b "Anode", 7 a "Anode", 8 K "Cathode", 9 f "Anode", 10 g "Anode"

## HDSP-H151
designator DS?
14.22 mm Gray Surface AlGaAs Red 7-Segment Display: CA, RH DP; LuminousIntensity: 9100 ucd (Minimum).; Note: Pins 3 and 8 are redundant Anodes.; Published: 26-May-2004; LatestRevisionDate: 11-Oct-2004; LatestRevisionNote: Display outline superimposed on PCB Footprint.; DatasheetDocument: 17-Jan-2002; PackageDocument: 24-Sep-2002; PackageReference: H-10; Publisher: Altium Limited; LED_Colour: AlGaAs Red; ComponentLink1Description: Manufacturer Link; ComponentLink1URL: http://www.agilent.com/; ComponentLink2Description: Datasheet; ComponentLink2URL: http://cp.literature.agilent.com/litweb/pdf/5988-4273EN.pdf
footprint H-10 (LED, 7-Segment Display, 14.22 mm, RHD; 10 Leads; Row Space 15.24 mm; Pitch 2.54 mm)
simulation model HDSP_H151 (SUBCKT)
pins: 1 e "Cathode", 2 d "Cathode", 3 A "Anode", 4 c "Cathode", 5 DP "Cathode", 6 b "Cathode", 7 a "Cathode", 8 A "Anode", 9 f "Cathode", 10 g "Cathode"

## HDSP-H153
designator DS?
14.22 mm Gray Surface AlGaAs Red 7-Segment Display: CC, RH DP; LuminousIntensity: 9100 ucd (Minimum).; Note: Pins 3 and 8 are redundant Cathodes.; Published: 26-May-2004; LatestRevisionDate: 11-Oct-2004; LatestRevisionNote: Display outline superimposed on PCB Footprint.; DatasheetDocument: 17-Jan-2002; PackageDocument: 24-Sep-2002; PackageReference: H-10; Publisher: Altium Limited; LED_Colour: AlGaAs Red; ComponentLink1Description: Manufacturer Link; ComponentLink1URL: http://www.agilent.com/; ComponentLink2Description: Datasheet; ComponentLink2URL: http://cp.literature.agilent.com/litweb/pdf/5988-4273EN.pdf
footprint H-10 (LED, 7-Segment Display, 14.22 mm, RHD; 10 Leads; Row Space 15.24 mm; Pitch 2.54 mm)
simulation model HDSP_H153 (SUBCKT)
pins: 1 e "Anode", 2 d "Anode", 3 K "Cathode", 4 c "Anode", 5 DP "Anode", 6 b "Anode", 7 a "Anode", 8 K "Cathode", 9 f "Anode", 10 g "Anode"

## HDSP-H211
designator DS?
14.22 mm Black Surface HER 7-Segment Display: CA, RH DP; LuminousIntensity: 900 ucd (Minimum).; LED_Colour: High Efficiency Red (HER); Note: Pins 3 and 8 are redundant Anodes.; Published: 26-May-2004; LatestRevisionDate: 11-Oct-2004; LatestRevisionNote: Display outline superimposed on PCB Footprint.; DatasheetDocument: 19-Feb-2002; PackageDocument: 24-Sep-2002; PackageReference: H-10; Publisher: Altium Limited; ComponentLink1Description: Manufacturer Link; ComponentLink1URL: http://www.agilent.com/; ComponentLink2Description: Datasheet; ComponentLink2URL: http://cp.literature.agilent.com/litweb/pdf/5989-2795EN.pdf
footprint H-10 (LED, 7-Segment Display, 14.22 mm, RHD; 10 Leads; Row Space 15.24 mm; Pitch 2.54 mm)
simulation model HDSP_H211 (SUBCKT)
pins: 1 e "Cathode", 2 d "Cathode", 3 A "Anode", 4 c "Cathode", 5 DP "Cathode", 6 b "Cathode", 7 a "Cathode", 8 A "Anode", 9 f "Cathode", 10 g "Cathode"

## HDSP-H213
designator DS?
14.22 mm Black Surface HER 7-Segment Display: CC, RH DP; LuminousIntensity: 900 ucd (Minimum).; LED_Colour: High Efficiency Red (HER); Note: Pins 3 and 8 are redundant Cathodes.; Published: 26-May-2004; LatestRevisionDate: 11-Oct-2004; LatestRevisionNote: Display outline superimposed on PCB Footprint.; DatasheetDocument: 19-Feb-2002; PackageDocument: 24-Sep-2002; PackageReference: H-10; Publisher: Altium Limited; ComponentLink1Description: Manufacturer Link; ComponentLink1URL: http://www.agilent.com/; ComponentLink2Description: Datasheet; ComponentLink2URL: http://cp.literature.agilent.com/litweb/pdf/5989-2795EN.pdf
footprint H-10 (LED, 7-Segment Display, 14.22 mm, RHD; 10 Leads; Row Space 15.24 mm; Pitch 2.54 mm)
simulation model HDSP_H213 (SUBCKT)
pins: 1 e "Anode", 2 d "Anode", 3 K "Cathode", 4 c "Anode", 5 DP "Anode", 6 b "Anode", 7 a "Anode", 8 K "Cathode", 9 f "Anode", 10 g "Anode"

## HDSP-H401
designator DS?
14.22 mm Gray Surface Orange 7-Segment Display: CA, RH DP; LuminousIntensity: 2370 ucd (Typical).; Note: Pins 3 and 8 are redundant Anodes.; Published: 26-May-2004; LatestRevisionDate: 11-Oct-2004; LatestRevisionNote: Display outline superimposed on PCB Footprint.; DatasheetDocument: 17-Jan-2002; PackageDocument: 24-Sep-2002; PackageReference: H-10; Publisher: Altium Limited; LED_Colour: Orange; ComponentLink1Description: Manufacturer Link; ComponentLink1URL: http://www.agilent.com/; ComponentLink2Description: Datasheet; ComponentLink2URL: http://cp.literature.agilent.com/litweb/pdf/5988-4273EN.pdf
footprint H-10 (LED, 7-Segment Display, 14.22 mm, RHD; 10 Leads; Row Space 15.24 mm; Pitch 2.54 mm)
simulation model HDSP_H401 (SUBCKT)
pins: 1 e "Cathode", 2 d "Cathode", 3 A "Anode", 4 c "Cathode", 5 DP "Cathode", 6 b "Cathode", 7 a "Cathode", 8 A "Anode", 9 f "Cathode", 10 g "Cathode"

## HDSP-H403
designator DS?
14.22 mm Gray Surface Orange 7-Segment Display: CC, RH DP; LuminousIntensity: 2370 ucd (Typical).; Note: Pins 3 and 8 are redundant Cathodes.; Published: 26-May-2004; LatestRevisionDate: 11-Oct-2004; LatestRevisionNote: Display outline superimposed on PCB Footprint.; DatasheetDocument: 17-Jan-2002; PackageDocument: 24-Sep-2002; PackageReference: H-10; Publisher: Altium Limited; LED_Colour: Orange; ComponentLink1Description: Manufacturer Link; ComponentLink1URL: http://www.agilent.com/; ComponentLink2Description: Datasheet; ComponentLink2URL: http://cp.literature.agilent.com/litweb/pdf/5988-4273EN.pdf
footprint H-10 (LED, 7-Segment Display, 14.22 mm, RHD; 10 Leads; Row Space 15.24 mm; Pitch 2.54 mm)
simulation model HDSP_H403 (SUBCKT)
pins: 1 e "Anode", 2 d "Anode", 3 K "Cathode", 4 c "Anode", 5 DP "Anode", 6 b "Anode", 7 a "Anode", 8 K "Cathode", 9 f "Anode", 10 g "Anode"

## HDSP-H411
designator DS?
14.22 mm Black Surface Orange 7-Segment Display: CA, RH DP; LuminousIntensity: 1190 ucd (Minimum).; Note: Pins 3 and 8 are redundant Anodes.; Published: 26-May-2004; LatestRevisionDate: 11-Oct-2004; LatestRevisionNote: Display outline superimposed on PCB Footprint.; DatasheetDocument: 19-Feb-2002; PackageDocument: 24-Sep-2002; PackageReference: H-10; Publisher: Altium Limited; LED_Colour: Orange; ComponentLink1Description: Manufacturer Link; ComponentLink1URL: http://www.agilent.com/; ComponentLink2Description: Datasheet; ComponentLink2URL: http://cp.literature.agilent.com/litweb/pdf/5989-2795EN.pdf
footprint H-10 (LED, 7-Segment Display, 14.22 mm, RHD; 10 Leads; Row Space 15.24 mm; Pitch 2.54 mm)
simulation model HDSP_H211 (SUBCKT)
pins: 1 e "Cathode", 2 d "Cathode", 3 A "Anode", 4 c "Cathode", 5 DP "Cathode", 6 b "Cathode", 7 a "Cathode", 8 A "Anode", 9 f "Cathode", 10 g "Cathode"

## HDSP-H413
designator DS?
14.22 mm Black Surface Orange 7-Segment Display: CC, RH DP; LuminousIntensity: 1190 ucd (Minimum).; Note: Pins 3 and 8 are redundant Cathodes.; Published: 26-May-2004; LatestRevisionDate: 11-Oct-2004; LatestRevisionNote: Display outline superimposed on PCB Footprint.; DatasheetDocument: 19-Feb-2002; PackageDocument: 24-Sep-2002; PackageReference: H-10; Publisher: Altium Limited; LED_Colour: Orange; ComponentLink1Description: Manufacturer Link; ComponentLink1URL: http://www.agilent.com/; ComponentLink2Description: Datasheet; ComponentLink2URL: http://cp.literature.agilent.com/litweb/pdf/5989-2795EN.pdf
footprint H-10 (LED, 7-Segment Display, 14.22 mm, RHD; 10 Leads; Row Space 15.24 mm; Pitch 2.54 mm)
simulation model HDSP_H213 (SUBCKT)
pins: 1 e "Anode", 2 d "Anode", 3 K "Cathode", 4 c "Anode", 5 DP "Anode", 6 b "Anode", 7 a "Anode", 8 K "Cathode", 9 f "Anode", 10 g "Anode"

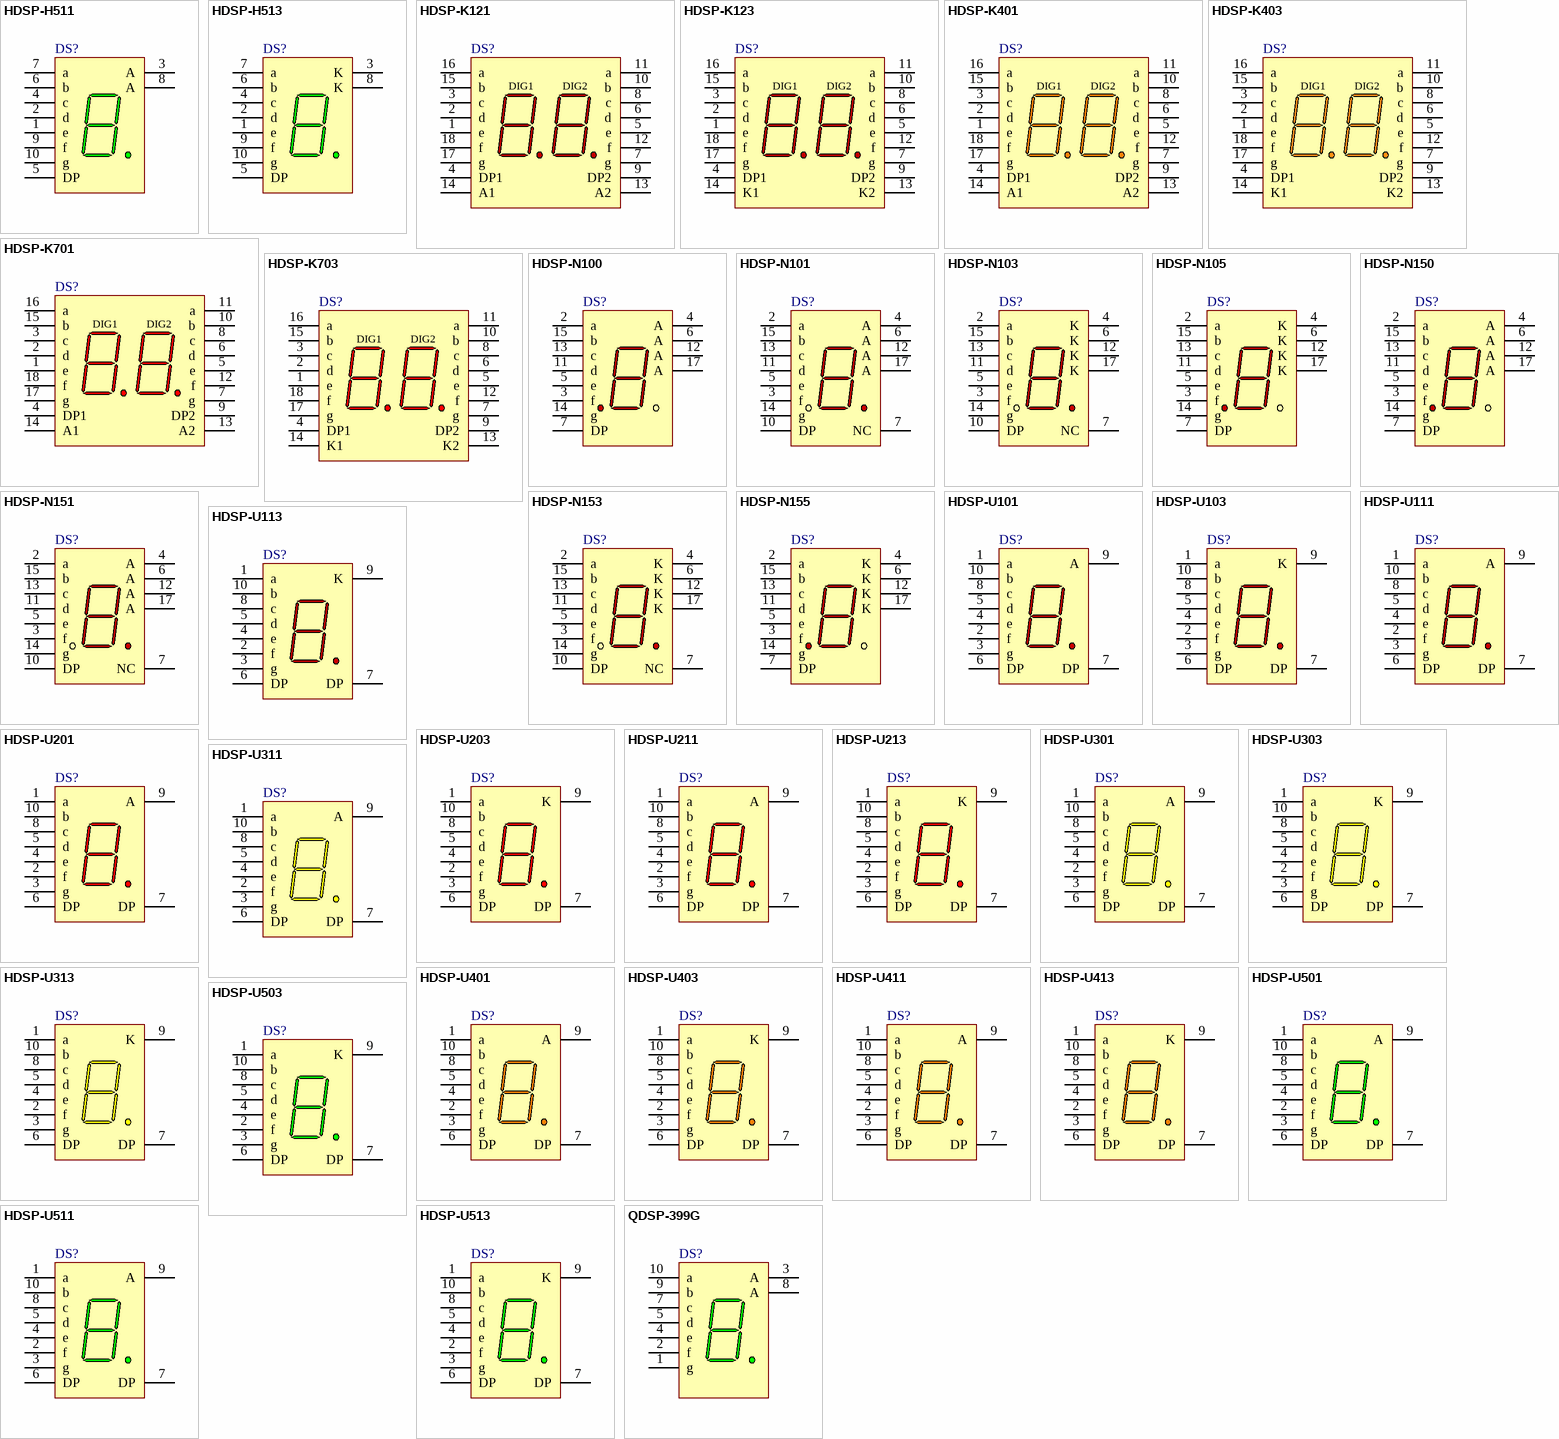
[diagram p5: symbols HDSP-H511 to QDSP-399G]

## HDSP-H511
designator DS?
14.22 mm Black Surface Green 7-Segment Display: CA, RH DP; LuminousIntensity: 900 ucd (Minimum).; Note: Pins 3 and 8 are redundant Anodes.; Published: 26-May-2004; LatestRevisionDate: 11-Oct-2004; LatestRevisionNote: Display outline superimposed on PCB Footprint.; DatasheetDocument: 19-Feb-2002; PackageDocument: 24-Sep-2002; PackageReference: H-10; Publisher: Altium Limited; LED_Colour: Green; ComponentLink1Description: Manufacturer Link; ComponentLink1URL: http://www.agilent.com/; ComponentLink2Description: Datasheet; ComponentLink2URL: http://cp.literature.agilent.com/litweb/pdf/5989-2795EN.pdf
footprint H-10 (LED, 7-Segment Display, 14.22 mm, RHD; 10 Leads; Row Space 15.24 mm; Pitch 2.54 mm)
simulation model HDSP_H511 (SUBCKT)
pins: 1 e "Cathode", 2 d "Cathode", 3 A "Anode", 4 c "Cathode", 5 DP "Cathode", 6 b "Cathode", 7 a "Cathode", 8 A "Anode", 9 f "Cathode", 10 g "Cathode"

## HDSP-H513
designator DS?
14.22 mm Black Surface Green 7-Segment Display: CC, RH DP; LuminousIntensity: 900 ucd (Minimum).; Note: Pins 3 and 8 are redundant Cathodes.; Published: 26-May-2004; LatestRevisionDate: 11-Oct-2004; LatestRevisionNote: Display outline superimposed on PCB Footprint.; DatasheetDocument: 19-Feb-2002; PackageDocument: 24-Sep-2002; PackageReference: H-10; Publisher: Altium Limited; LED_Colour: Green; ComponentLink1Description: Manufacturer Link; ComponentLink1URL: http://www.agilent.com/; ComponentLink2Description: Datasheet; ComponentLink2URL: http://cp.literature.agilent.com/litweb/pdf/5989-2795EN.pdf
footprint H-10 (LED, 7-Segment Display, 14.22 mm, RHD; 10 Leads; Row Space 15.24 mm; Pitch 2.54 mm)
simulation model HDSP_H513 (SUBCKT)
pins: 1 e "Anode", 2 d "Anode", 3 K "Cathode", 4 c "Anode", 5 DP "Anode", 6 b "Anode", 7 a "Anode", 8 K "Cathode", 9 f "Anode", 10 g "Anode"

## HDSP-K121
designator DS?
14.22 mm Low Current AlGaAs 7-Segment Display: 2-Digit, CA, RH DP; LuminousIntensity: 400 ucd (Minimum).; LED_Colour: AlGaAs Red; Published: 26-May-2004; LatestRevisionDate: 11-Oct-2004; LatestRevisionNote: Display outline superimposed on PCB Footprint.; DatasheetDocument: 11-Mar-2003; PackageDocument: 09-Jan-2002; PackageReference: K; Publisher: Altium Limited; ComponentLink1Description: Manufacturer Link; ComponentLink1URL: http://www.agilent.com/; ComponentLink2Description: Datasheet; ComponentLink2URL: http://cp.literature.agilent.com/litweb/pdf/5989-2824EN.pdf
footprint K (LED, 7-Segment Display, 14.22 mm, Dual Digit; 18 Leads; Row Space 15.24 mm; Pitch 2.54 mm)
simulation model HDSP_K121 (SUBCKT)
pins: 1 e "Digit 1 e Cathode", 2 d "Digit 1 d Cathode", 3 c "Digit 1 c Cathode", 4 DP1 "Digit 1 DP Cathode", 5 e "Digit 2 e Cathode", 6 d "Digit 2 d Cathode", 7 g "Digit 2 g Cathode", 8 c "Digit 2 c Cathode", 9 DP2 "Digit 2 DP Cathode", 10 b "Digit 2 b Cathode", 11 a "Digit 2 a Cathode", 12 f "Digit 2 f Cathode", 13 A2 "Digit 2 Common Anode", 14 A1 "Digit 1 Common Anode", 15 b "Digit 1 b Cathode", 16 a "Digit 1 a Cathode", 17 g "Digit 1 g Cathode", 18 f "Digit 1 f Cathode"
text: DIG1; DIG2

## HDSP-K123
designator DS?
14.22 mm Low Current AlGaAs 7-Segment Display: 2-Digit, CC, RH DP; LuminousIntensity: 400 ucd (Minimum).; LED_Colour: AlGaAs Red; Published: 26-May-2004; LatestRevisionDate: 11-Oct-2004; LatestRevisionNote: Display outline superimposed on PCB Footprint.; DatasheetDocument: 11-Mar-2003; PackageDocument: 09-Jan-2002; PackageReference: K; Publisher: Altium Limited; ComponentLink1Description: Manufacturer Link; ComponentLink1URL: http://www.agilent.com/; ComponentLink2Description: Datasheet; ComponentLink2URL: http://cp.literature.agilent.com/litweb/pdf/5989-2824EN.pdf
footprint K (LED, 7-Segment Display, 14.22 mm, Dual Digit; 18 Leads; Row Space 15.24 mm; Pitch 2.54 mm)
simulation model HDSP_K123 (SUBCKT)
pins: 1 e "Digit 1 e Anode", 2 d "Digit 1 d Anode", 3 c "Digit 1 c Anode", 4 DP1 "Digit 1 DP Anode", 5 e "Digit 2 e Anode", 6 d "Digit 2 d Anode", 7 g "Digit 2 g Anode", 8 c "Digit 2 c Anode", 9 DP2 "Digit 2 DP Anode", 10 b "Digit 2 b Anode", 11 a "Digit 2 a Anode", 12 f "Digit 2 f Anode", 13 K2 "Digit 2 Common Cathode", 14 K1 "Digit 1 Common Cathode", 15 b "Digit 1 b Anode", 16 a "Digit 1 a Anode", 17 g "Digit 1 g Anode", 18 f "Digit 1 f Anode"
text: DIG1; DIG2

## HDSP-K401
designator DS?
14.22 mm Gray Surface Orange 7-Segment Display: 2-Digit, CA, RH DP; LuminousIntensity: 2370 ucd (Typical).; Published: 26-May-2004; LatestRevisionDate: 11-Oct-2004; LatestRevisionNote: Display outline superimposed on PCB Footprint.; DatasheetDocument: 17-Jan-2002; PackageDocument: 09-Jan-2002; PackageReference: K; Publisher: Altium Limited; LED_Colour: Orange; ComponentLink1Description: Manufacturer Link; ComponentLink1URL: http://www.agilent.com/; ComponentLink2Description: Datasheet; ComponentLink2URL: http://cp.literature.agilent.com/litweb/pdf/5988-4273EN.pdf
footprint K (LED, 7-Segment Display, 14.22 mm, Dual Digit; 18 Leads; Row Space 15.24 mm; Pitch 2.54 mm)
simulation model HDSP_K401 (SUBCKT)
pins: 1 e "Digit 1 e Cathode", 2 d "Digit 1 d Cathode", 3 c "Digit 1 c Cathode", 4 DP1 "Digit 1 DP Cathode", 5 e "Digit 2 e Cathode", 6 d "Digit 2 d Cathode", 7 g "Digit 2 g Cathode", 8 c "Digit 2 c Cathode", 9 DP2 "Digit 2 DP Cathode", 10 b "Digit 2 b Cathode", 11 a "Digit 2 a Cathode", 12 f "Digit 2 f Cathode", 13 A2 "Digit 2  Common Anode", 14 A1 "Digit 1 Common Anode", 15 b "Digit 1 b Cathode", 16 a "Digit 1 a Cathode", 17 g "Digit 1 g Cathode", 18 f "Digit 1 f Cathode"
text: DIG1; DIG2

## HDSP-K403
designator DS?
14.22 mm Gray Surface Orange 7-Segment Display: 2-Digit, CC, RH DP; LuminousIntensity: 2370 ucd (Typical).; Published: 26-May-2004; LatestRevisionDate: 11-Oct-2004; LatestRevisionNote: Display outline superimposed on PCB Footprint.; DatasheetDocument: 17-Jan-2002; PackageDocument: 09-Jan-2002; PackageReference: K; Publisher: Altium Limited; LED_Colour: Orange; ComponentLink1Description: Manufacturer Link; ComponentLink1URL: http://www.agilent.com/; ComponentLink2Description: Datasheet; ComponentLink2URL: http://cp.literature.agilent.com/litweb/pdf/5988-4273EN.pdf
footprint K (LED, 7-Segment Display, 14.22 mm, Dual Digit; 18 Leads; Row Space 15.24 mm; Pitch 2.54 mm)
simulation model HDSP_K403 (SUBCKT)
pins: 1 e "Digit 1 e Anode", 2 d "Digit 1 d Anode", 3 c "Digit 1 c Anode", 4 DP1 "Digit 1 DP Anode", 5 e "Digit 2 e Anode", 6 d "Digit 2 d Anode", 7 g "Digit 2 g Anode", 8 c "Digit 2 c Anode", 9 DP2 "Digit 2 DP Anode", 10 b "Digit 2 b Anode", 11 a "Digit 2 a Anode", 12 f "Digit 2 f Anode", 13 K2 "Digit 2 Common Cathode", 14 K1 "Digit 1 Common Cathode", 15 b "Digit 1 b Anode", 16 a "Digit 1 a Anode", 17 g "Digit 1 g Anode", 18 f "Digit 1 f Anode"
text: DIG1; DIG2